# Altium schematic symbol library Protocoles de comunication.SchLib: 1 symbol
Pins are listed as number, name and electrical type; pins without a type are passive.

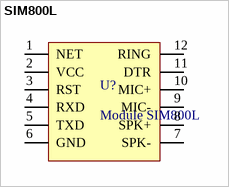
[diagram p0: symbol SIM800L]

## SIM800L
designator U?, comment Module SIM800L
footprint SIM800L
pins: 1 NET, 2 VCC, 3 RST, 4 RXD, 5 TXD, 6 GND, 7 SPK-, 8 SPK+, 9 MIC-, 10 MIC+, 11 DTR, 12 RING